# EAGLE library part MAX202ECWE (library maxim)
RS232 TRANSEIVER
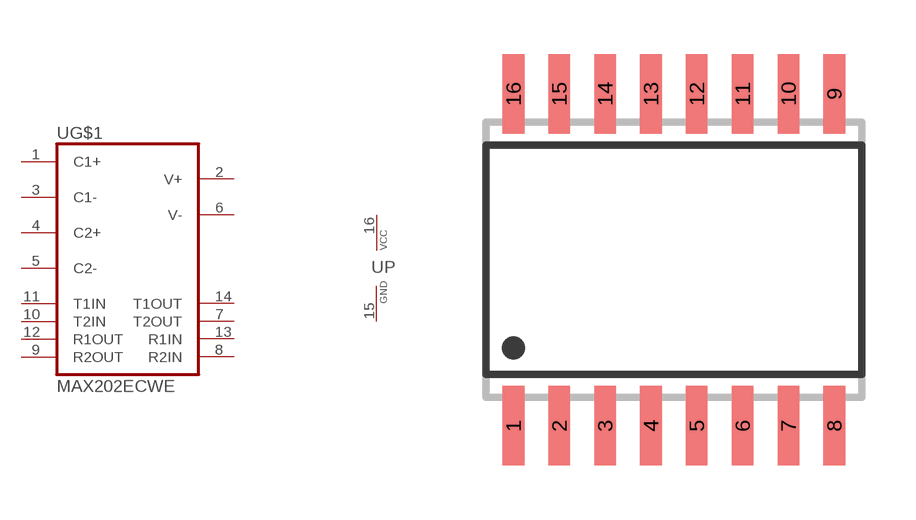
[diagram p358: symbol with the pads of SO16W; footprint SO16W]

Designator prefix U; gates G$1=MAX232 P=VCC-GND

## MAX202ECWE  [SO16W]
1  G$1:C1+
2  G$1:V+
3  G$1:C1-
4  G$1:C2+
5  G$1:C2-
6  G$1:V-
7  G$1:T2OUT  out
8  G$1:R2IN  in
9  G$1:R2OUT  out
10  G$1:T2IN  in
11  G$1:T1IN  in
12  G$1:R1OUT  out
13  G$1:R1IN  in
14  G$1:T1OUT  out
15  P:GND  pwr
16  P:VCC  pwr

## Footprint SO16W (pad centres in mm)
SMALL OUTLINE INTEGRATED CIRCUIT wide body 7.5 mm/JEDEC MS-013AA
smd 0.6 x 2.2: 1 -4.445,-4.6; 2 -3.175,-4.6; 3 -1.905,-4.6; 4 -0.635,-4.6; 5 0.635,-4.6; 6 1.905,-4.6; 7 3.175,-4.6; 8 4.445,-4.6; 9 4.445,4.6; 10 3.175,4.6; 11 1.905,4.6; 12 0.635,4.6; 13 -0.635,4.6; 14 -1.905,4.6; 15 -3.175,4.6; 16 -4.445,4.6